# EAGLE library part NRF905 (library balto)
Single chip 433/868/915MHz Transceiver
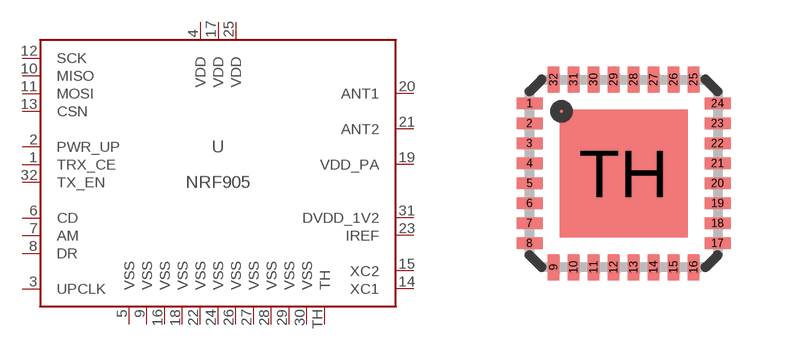
[diagram p44: symbol with the pads of MLF32-TH; footprint MLF32-TH]

Designator prefix U

## NRF905  [MLF32-TH]
1  TRX_CE
2  PWR_UP
3  UPCLK
4  VDD
5  VSS
6  CD
7  AM
8  DR
9  VSS
10  MISO
11  MOSI
12  SCK
13  CSN
14  XC1
15  XC2
16  VSS
17  VDD
18  VSS
19  VDD_PA
20  ANT1
21  ANT2
22  VSS
23  IREF
24  VSS
25  VDD
26  VSS
27  VSS
28  VSS
29  VSS
30  VSS
31  DVDD_1V2
32  TX_EN
TH  TH

## Footprint MLF32-TH (pad centres in mm)
32M1-A Micro Lead Frame package (MLF)
smd 0.65 x 0.29: 1 -2.35,1.75; 2 -2.35,1.25; 3 -2.35,0.75; 4 -2.35,0.25; 5 -2.35,-0.25; 6 -2.35,-0.75; 7 -2.35,-1.25; 8 -2.35,-1.75; 17 2.35,-1.75; 18 2.35,-1.25; 19 2.35,-0.75; 20 2.35,-0.25; 21 2.35,0.25; 22 2.35,0.75; 23 2.35,1.25; 24 2.35,1.75
smd 0.29 x 0.65: 9 -1.75,-2.35; 10 -1.25,-2.35; 11 -0.75,-2.35; 12 -0.25,-2.35; 13 0.25,-2.35; 14 0.75,-2.35; 15 1.25,-2.35; 16 1.75,-2.35; 25 1.75,2.35; 26 1.25,2.35; 27 0.75,2.35; 28 0.25,2.35; 29 -0.25,2.35; 30 -0.75,2.35; 31 -1.25,2.35; 32 -1.75,2.35
smd 3.2 x 3.2: TH 0,0